# Altium footprint library Sensor_breakout.PcbLib: 4 footprints
Each footprint in its own frame and in the unit in brackets; x right, y up, seen from the top. Pads: shape width x height; smd on the part's side, far side on the other; paste and mask are expansions set on the pad; w line width, h text height; cw(c..) or ccw(c..) is an arc to the next point about the centre after c.
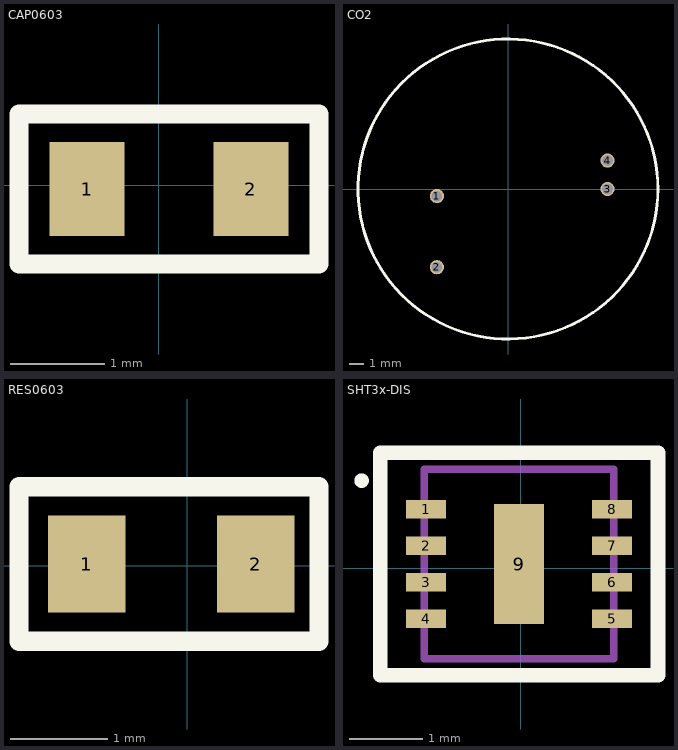
[diagram p0: the footprints below, top view; thin cyan lines are the x and y axes]

## CAP0603 [mm]
pads (2):
  rect 0.8x1 smd paste+0 mask+0.102: 1(-0.763,-0.04) 2(0.983,-0.04)
Top Overlay:
  lines w0.2: -1.49,-0.84 -1.49,0.76 1.71,0.76 1.71,-0.84 -1.49,-0.84
Mechanical 29:
  lines w0.1: -1.49,-0.84 -1.49,0.76 1.71,0.76 1.71,-0.84 -1.49,-0.84
  text "'.Designator'" at -1.09,-0.44 h1
3D body "User Library-CR1608-0603.step": height 0.45, standoff 0, extent -0.69,-0.44 0.91,0.36

## CO2 [mm]
pads (4):
  round 1 hole 0.75: 1(-5,-0.5) 2(-5,-5.5) 3(7,0) 4(7,2)
Top Overlay:
  circle w0.2: c0,0 r10.55
Mechanical 29:
  circle w0.1: c0,0 r10.55
  text ".designator" at -4.5,-3.4 h0.7
3D body: height 18.05, standoff 0, extent -10.45,-10.45 10.45,10.45
3D body: height 0.61, standoff 0, extent 0,0 0,0

## RES0603 [mm]
pads (2):
  rect 0.8x1 smd paste+0 mask+0.102: 1(-1.039,0.02) 2(0.708,0.02)
Top Overlay:
  lines w0.2: -1.74,-0.78 1.36,-0.78 1.36,0.82 -1.74,0.82 -1.74,-0.78
Mechanical 29:
  lines w0.1: -1.74,-0.78 1.36,-0.78 1.36,0.82 -1.74,0.82 -1.74,-0.78
  text "'.Designator'" at -1.44,-0.38 h1
3D body "User Library-CR1608-0603.step": height 0.45, standoff 0, extent -0.965,-0.38 0.635,0.42

## SHT3x-DIS [mm]
pads (9):
  rect 0.55x0.25 smd: 1(-1.3,0.807) 2(-1.3,0.307) 3(-1.3,-0.193) 4(-1.3,-0.693) 5(1.25,-0.693) 6(1.25,-0.193) 7(1.25,0.307) 8(1.25,0.807)
  rect 0.69x1.65 smd: 9(-0.025,0.057)
Top Overlay:
  circle w0.1: c-2.184,1.2 r0.05
  lines w0.2: -1.93,-1.467 1.88,-1.467 1.88,1.581 -1.93,1.581 -1.93,-1.467
Mechanical 29:
  lines w0.1: -1.325,-1.243 1.275,-1.243 1.275,1.357 -1.325,1.357 -1.325,-1.243
3D body: height 0.8, standoff 0.2, extent -1.325,-1.243 1.275,1.357